# Altium integrated library Analog Devices Data Converters Analog-to-Digital Converters.IntLib: 2400 symbols (part 145 of 338)
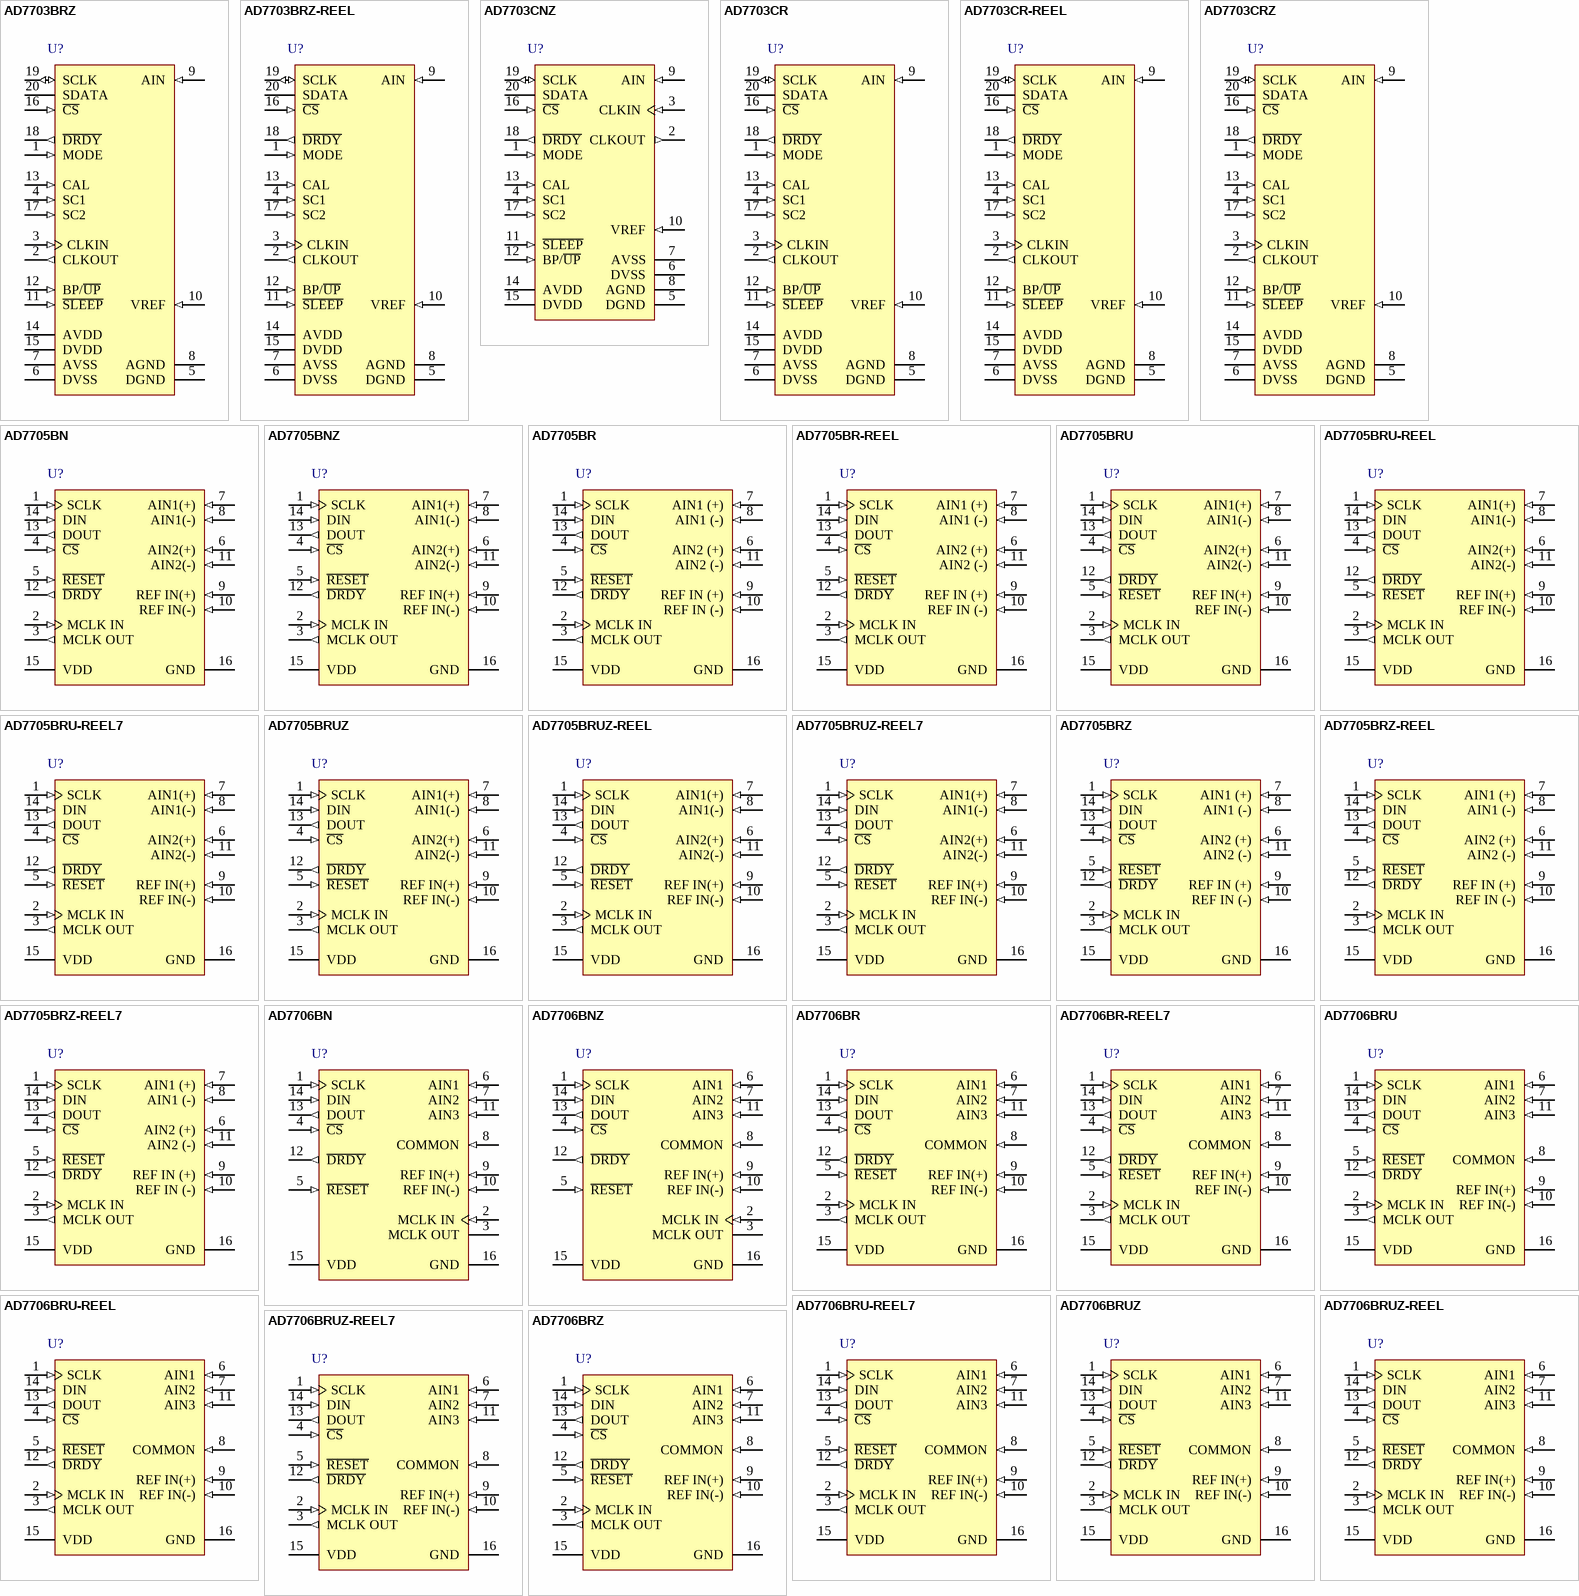
[diagram p238: symbols AD7703BRZ to AD7706BRZ]

## AD7706BRZ
designator U?
3 Channel 16-Bit Sigma-Delta Analog-to-Digital Converter with Serial, SPI Interface, 1 mW, 3 V / 5 V, 500SPS, -40 to +85 degC, RW-16, Pb-Free, Tube; Part Number: AD7706; Manufacturer: Analog Devices; Resolution (Bits): 16; Channels: 3; Throughput Rate (SPS): 500; Interface: Ser, SPI; DatasheetVersion: Rev.C; PackageVersion: 032707-B; PackageReference: RW-16; PackageDescription: 16-Lead Standard Small Outline Package [SOIC_W]; RoHS: Y; Packing: Tube; Mounting Technology: Surface Mount; Code_JEDEC: MS-013-AA; Code_IPC: SOIC127P1030-16; ComponentLink1Description: Manufacturer URL; ComponentLink1URL: http://www.analog.com/en/index.html; ComponentLink2Description: Datasheet; ComponentLink2URL: http://www.analog.com/static/imported-files/data_sheets/AD7705_7706.pdf; ComponentLink3Description: Package Specification; ComponentLink3URL: http://www.analog.com/static/imported-files/packages/PKG_PDF/SOIC_WIDE%20%28RW%29/RW_16.pdf; ComponentLink4Description: Product URL; ComponentLink4URL: http://www.analog.com/en/analog-to-digital-converters/ad-converters/ad7706/products/product.html
footprint RW-16_N (SOIC, 16-Leads, Body 10.3x7.5mm, Pitch 1.27mm, IPC Medium Density)
footprint RW-16_L (SOIC, 16-Leads, Body 10.3x7.5mm, Pitch 1.27mm, IPC High Density)
footprint RW-16_M (SOIC, 16-Leads, Body 10.3x7.5mm, Pitch 1.27mm, IPC Low Density)
pins: 1 SCLK (in) "Serial Clock. An external serial clock is applied to the Schmitt-triggered logic input to access serial data from the AD7705/AD7706. This serial clock can be a continuous clock with all data transmitted in a continuous train (See Datasheet)", 2 MCLK IN (in) "Master Clock Signal. This can be provided in the form of a crystal/resonator or external clock. A crystal/resonator can be tied across the Pin MCLK IN and Pin MCLK OUT. Alternatively, the MCLK IN pin can be driven with a (See Datasheet)", 3 MCLK OUT (out) "When the master clock for these devices is a crystal/resonator, the crystal/resonator is connected between Pin MCLK IN and Pin MCLK OUT. If an external clock is applied to Pin MCLK IN, Pin MCLK OUT provides an inverted clock (See Datasheet)", 4 ~{CS} (in) "Chip Select. Active low logic input used to select the AD7705/AD7706. With this input hardwired low, the AD7705/AD7706 can operate in its 3-wire interface mode with Pin SCLK, Pin DIN, and Pin DOUT used to interface to the (See Datasheet)", 5 ~{RESET} (in) "Logic Input. Active low input that resets the control logic, interface logic, calibration coefficients, digital filter, and analog modulator of the parts to power-on status.", 6 AIN1 (in) "Positive Input of the Differential Analog Input Pair AIN2(+)/AIN2(-) for AD7705. Channel 1 for AD7706.", 7 AIN2 (in) "Positive Input of the Differential Analog Input Pair AIN1(+)/AIN1(-) for AD7705. Channel 2 for AD7706.", 8 COMMON (in) "Negative Input of the Differential Analog Input Pair AIN1(+)/AIN1(-) for AD7705. COMMON input for AD7706 with Channel 1, Channel 2, and Channel 3 referenced to this input.", 9 REF IN(+) (in) "Reference Input. Positive input of the differential reference input to the AD7705/AD7706. The reference input is differential with the provision that REF IN(+) must be greater than REF IN(-). REF IN(+) can lie anywhere (See Datasheet)", 10 REF IN(-) (in) "Reference Input. Negative input of the differential reference input to the AD7705/AD7706. The REF IN(-) can lie anywhere between VDD and GND, provided that REF IN(+) is greater than REF IN(-).", 11 AIN3 (in) "Negative Input of the Differential Analog Input Pair AIN2(+)/AIN2(-) for AD7705. Channel 3 for AD7706.", 12 ~{DRDY} (out) "Logic Output. A logic low on this output indicates that a new output word is available from the AD7705/AD7706 data register. The D\R\D\Y\ pin returns high upon completion of a read operation of a full output word. If no data (See Datasheet)", 13 DOUT (out) "Serial Data Output. Serial data is read from the output shift register on the part. The output shift register can contain information from the setup register, communication register, clock register, or data register, (See Datasheet)", 14 DIN (in) "Serial Data Input. Serial data is written to the input shift register on the part. Data from the input shift register is transferred to the setup register, clock register, or communication register, depending on the register (See Datasheet)", 15 VDD (power) "Supply Voltage. 2.7 V to 5.25 V operation.", 16 GND (power) "Ground Reference Point for the AD7705/AD7706 Internal Circuitry."

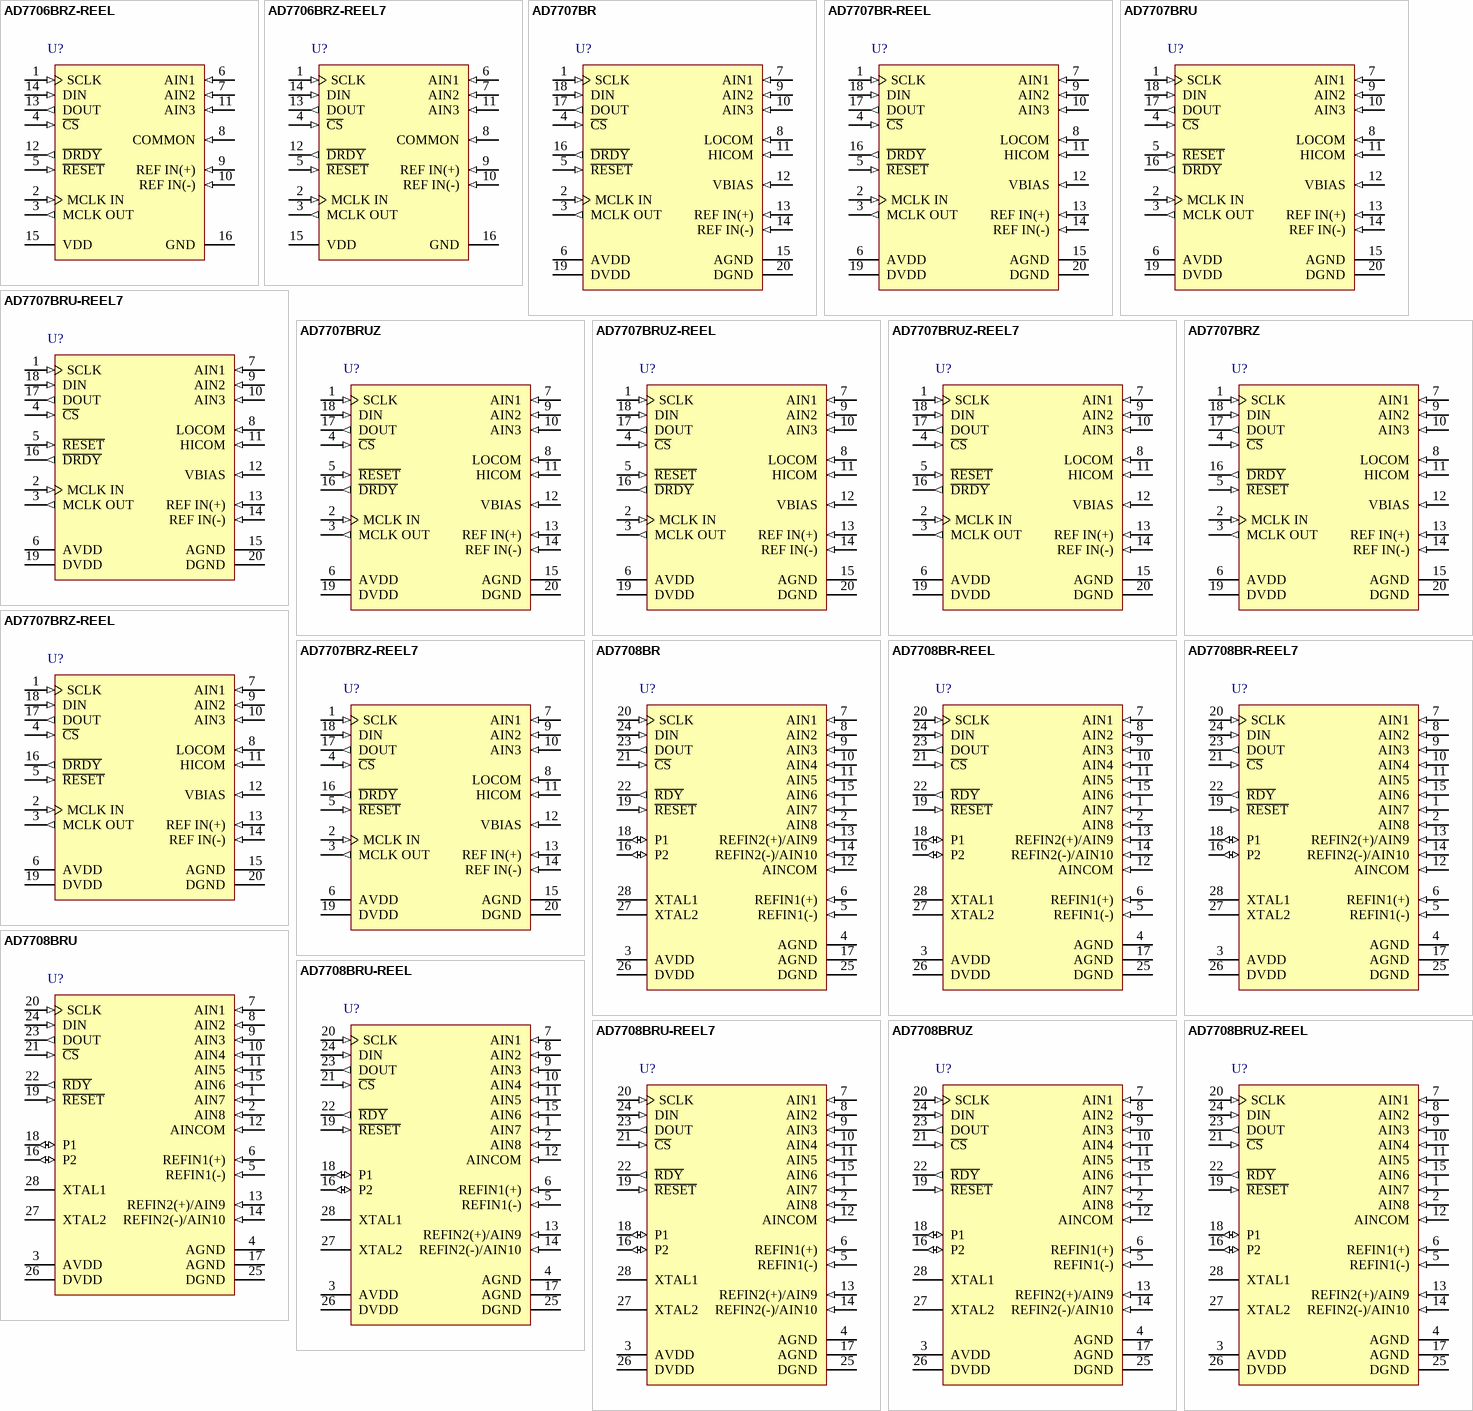
[diagram p48: symbols AD7706BRZ-REEL to AD7708BRUZ-REEL]

## AD7706BRZ-REEL
designator U?
3 Channel 16-Bit Sigma-Delta Analog-to-Digital Converter with Serial, SPI Interface, 1 mW, 3 V / 5 V, 500SPS, -40 to +85 degC, RW-16, Pb-Free, Reel; Part Number: AD7706; Manufacturer: Analog Devices; Resolution (Bits): 16; Channels: 3; Throughput Rate (SPS): 500; Interface: Ser, SPI; DatasheetVersion: Rev.C; PackageVersion: 032707-B; PackageReference: RW-16; PackageDescription: 16-Lead Standard Small Outline Package [SOIC_W]; RoHS: Y; Packing: Reel; Mounting Technology: Surface Mount; Code_JEDEC: MS-013-AA; Code_IPC: SOIC127P1030-16; ComponentLink1Description: Manufacturer URL; ComponentLink1URL: http://www.analog.com/en/index.html; ComponentLink2Description: Datasheet; ComponentLink2URL: http://www.analog.com/static/imported-files/data_sheets/AD7705_7706.pdf; ComponentLink3Description: Package Specification; ComponentLink3URL: http://www.analog.com/static/imported-files/packages/PKG_PDF/SOIC_WIDE%20%28RW%29/RW_16.pdf; ComponentLink4Description: Product URL; ComponentLink4URL: http://www.analog.com/en/analog-to-digital-converters/ad-converters/ad7706/products/product.html
footprint RW-16_N (SOIC, 16-Leads, Body 10.3x7.5mm, Pitch 1.27mm, IPC Medium Density)
footprint RW-16_L (SOIC, 16-Leads, Body 10.3x7.5mm, Pitch 1.27mm, IPC High Density)
footprint RW-16_M (SOIC, 16-Leads, Body 10.3x7.5mm, Pitch 1.27mm, IPC Low Density)
pins: 1 SCLK (in) "Serial Clock. An external serial clock is applied to the Schmitt-triggered logic input to access serial data from the AD7705/AD7706. This serial clock can be a continuous clock with all data transmitted in a continuous train (See Datasheet)", 2 MCLK IN (in) "Master Clock Signal. This can be provided in the form of a crystal/resonator or external clock. A crystal/resonator can be tied across the Pin MCLK IN and Pin MCLK OUT. Alternatively, the MCLK IN pin can be driven with a (See Datasheet)", 3 MCLK OUT (out) "When the master clock for these devices is a crystal/resonator, the crystal/resonator is connected between Pin MCLK IN and Pin MCLK OUT. If an external clock is applied to Pin MCLK IN, Pin MCLK OUT provides an inverted clock (See Datasheet)", 4 ~{CS} (in) "Chip Select. Active low logic input used to select the AD7705/AD7706. With this input hardwired low, the AD7705/AD7706 can operate in its 3-wire interface mode with Pin SCLK, Pin DIN, and Pin DOUT used to interface to the (See Datasheet)", 5 ~{RESET} (in) "Logic Input. Active low input that resets the control logic, interface logic, calibration coefficients, digital filter, and analog modulator of the parts to power-on status.", 6 AIN1 (in) "Positive Input of the Differential Analog Input Pair AIN2(+)/AIN2(-) for AD7705. Channel 1 for AD7706.", 7 AIN2 (in) "Positive Input of the Differential Analog Input Pair AIN1(+)/AIN1(-) for AD7705. Channel 2 for AD7706.", 8 COMMON (in) "Negative Input of the Differential Analog Input Pair AIN1(+)/AIN1(-) for AD7705. COMMON input for AD7706 with Channel 1, Channel 2, and Channel 3 referenced to this input.", 9 REF IN(+) (in) "Reference Input. Positive input of the differential reference input to the AD7705/AD7706. The reference input is differential with the provision that REF IN(+) must be greater than REF IN(-). REF IN(+) can lie anywhere (See Datasheet)", 10 REF IN(-) (in) "Reference Input. Negative input of the differential reference input to the AD7705/AD7706. The REF IN(-) can lie anywhere between VDD and GND, provided that REF IN(+) is greater than REF IN(-).", 11 AIN3 (in) "Negative Input of the Differential Analog Input Pair AIN2(+)/AIN2(-) for AD7705. Channel 3 for AD7706.", 12 ~{DRDY} (out) "Logic Output. A logic low on this output indicates that a new output word is available from the AD7705/AD7706 data register. The D\R\D\Y\ pin returns high upon completion of a read operation of a full output word. If no data (See Datasheet)", 13 DOUT (out) "Serial Data Output. Serial data is read from the output shift register on the part. The output shift register can contain information from the setup register, communication register, clock register, or data register, (See Datasheet)", 14 DIN (in) "Serial Data Input. Serial data is written to the input shift register on the part. Data from the input shift register is transferred to the setup register, clock register, or communication register, depending on the register (See Datasheet)", 15 VDD (power) "Supply Voltage. 2.7 V to 5.25 V operation.", 16 GND (power) "Ground Reference Point for the AD7705/AD7706 Internal Circuitry."

## AD7706BRZ-REEL7
designator U?
3 Channel 16-Bit Sigma-Delta Analog-to-Digital Converter with Serial, SPI Interface, 1 mW, 3 V / 5 V, 500SPS, -40 to +85 degC, RW-16, Pb-Free, Reel; Part Number: AD7706; Manufacturer: Analog Devices; Resolution (Bits): 16; Channels: 3; Throughput Rate (SPS): 500; Interface: Ser, SPI; DatasheetVersion: Rev.C; PackageVersion: 032707-B; PackageReference: RW-16; PackageDescription: 16-Lead Standard Small Outline Package [SOIC_W]; RoHS: Y; Packing: Reel; Mounting Technology: Surface Mount; Code_JEDEC: MS-013-AA; Code_IPC: SOIC127P1030-16; ComponentLink1Description: Manufacturer URL; ComponentLink1URL: http://www.analog.com/en/index.html; ComponentLink2Description: Datasheet; ComponentLink2URL: http://www.analog.com/static/imported-files/data_sheets/AD7705_7706.pdf; ComponentLink3Description: Package Specification; ComponentLink3URL: http://www.analog.com/static/imported-files/packages/PKG_PDF/SOIC_WIDE%20%28RW%29/RW_16.pdf; ComponentLink4Description: Product URL; ComponentLink4URL: http://www.analog.com/en/analog-to-digital-converters/ad-converters/ad7706/products/product.html
footprint RW-16_N (SOIC, 16-Leads, Body 10.3x7.5mm, Pitch 1.27mm, IPC Medium Density)
footprint RW-16_L (SOIC, 16-Leads, Body 10.3x7.5mm, Pitch 1.27mm, IPC High Density)
footprint RW-16_M (SOIC, 16-Leads, Body 10.3x7.5mm, Pitch 1.27mm, IPC Low Density)
pins: 1 SCLK (in) "Serial Clock. An external serial clock is applied to the Schmitt-triggered logic input to access serial data from the AD7705/AD7706. This serial clock can be a continuous clock with all data transmitted in a continuous train (See Datasheet)", 2 MCLK IN (in) "Master Clock Signal. This can be provided in the form of a crystal/resonator or external clock. A crystal/resonator can be tied across the Pin MCLK IN and Pin MCLK OUT. Alternatively, the MCLK IN pin can be driven with a (See Datasheet)", 3 MCLK OUT (out) "When the master clock for these devices is a crystal/resonator, the crystal/resonator is connected between Pin MCLK IN and Pin MCLK OUT. If an external clock is applied to Pin MCLK IN, Pin MCLK OUT provides an inverted clock (See Datasheet)", 4 ~{CS} (in) "Chip Select. Active low logic input used to select the AD7705/AD7706. With this input hardwired low, the AD7705/AD7706 can operate in its 3-wire interface mode with Pin SCLK, Pin DIN, and Pin DOUT used to interface to the (See Datasheet)", 5 ~{RESET} (in) "Logic Input. Active low input that resets the control logic, interface logic, calibration coefficients, digital filter, and analog modulator of the parts to power-on status.", 6 AIN1 (in) "Positive Input of the Differential Analog Input Pair AIN2(+)/AIN2(-) for AD7705. Channel 1 for AD7706.", 7 AIN2 (in) "Positive Input of the Differential Analog Input Pair AIN1(+)/AIN1(-) for AD7705. Channel 2 for AD7706.", 8 COMMON (in) "Negative Input of the Differential Analog Input Pair AIN1(+)/AIN1(-) for AD7705. COMMON input for AD7706 with Channel 1, Channel 2, and Channel 3 referenced to this input.", 9 REF IN(+) (in) "Reference Input. Positive input of the differential reference input to the AD7705/AD7706. The reference input is differential with the provision that REF IN(+) must be greater than REF IN(-). REF IN(+) can lie anywhere (See Datasheet)", 10 REF IN(-) (in) "Reference Input. Negative input of the differential reference input to the AD7705/AD7706. The REF IN(-) can lie anywhere between VDD and GND, provided that REF IN(+) is greater than REF IN(-).", 11 AIN3 (in) "Negative Input of the Differential Analog Input Pair AIN2(+)/AIN2(-) for AD7705. Channel 3 for AD7706.", 12 ~{DRDY} (out) "Logic Output. A logic low on this output indicates that a new output word is available from the AD7705/AD7706 data register. The D\R\D\Y\ pin returns high upon completion of a read operation of a full output word. If no data (See Datasheet)", 13 DOUT (out) "Serial Data Output. Serial data is read from the output shift register on the part. The output shift register can contain information from the setup register, communication register, clock register, or data register, (See Datasheet)", 14 DIN (in) "Serial Data Input. Serial data is written to the input shift register on the part. Data from the input shift register is transferred to the setup register, clock register, or communication register, depending on the register (See Datasheet)", 15 VDD (power) "Supply Voltage. 2.7 V to 5.25 V operation.", 16 GND (power) "Ground Reference Point for the AD7705/AD7706 Internal Circuitry."

## AD7707BR
designator U?
3 Channel 16-Bit Sigma-Delta Analog-to-Digital Converter with Serial, SPI Interface, 1 mW, +/-10 V Input Range, 3 V / 5 V, 500SPS, -40 to +85 degC, RW-20, Tube; Part Number: AD7707; Manufacturer: Analog Devices; Resolution (Bits): 16; Channels: 3; Throughput Rate (SPS): 500; Interface: Ser, SPI; DatasheetVersion: Rev.B; PackageVersion: 060706-A; PackageReference: RW-20; PackageDescription: 20-Lead Standard Small Outline Package [SOIC_W] Wide Body; RoHS: N; Packing: Tube; Mounting Technology: Surface Mount; Code_JEDEC: MS-013-AC; ComponentLink1Description: Manufacturer URL; ComponentLink1URL: http://www.analog.com/en/index.html; ComponentLink2Description: Datasheet; ComponentLink2URL: http://www.analog.com/static/imported-files/data_sheets/AD7707.pdf; ComponentLink3Description: Package Specification; ComponentLink3URL: http://www.analog.com/static/imported-files/packages/233848RW_20.pdf; ComponentLink4Description: Product URL; ComponentLink4URL: http://www.analog.com/en/analog-to-digital-converters/ad-converters/ad7707/products/product.html
footprint RW-20_N (SOIC, 20-Leads, Body 12.8x7.5mm, Pitch 1.27mm, IPC Medium Density)
footprint RW-20_L (SOIC, 20-Leads, Body 12.8x7.5mm, Pitch 1.27mm, IPC High Density)
footprint RW-20_M (SOIC, 20-Leads, Body 12.8x7.5mm, Pitch 1.27mm, IPC Low Density)
pins: 1 SCLK (in) "Serial Clock, Schmitt-Triggered Logic Input. An external serial clock is applied to this input to access serial data from the AD7707. This serial clock can be a continuous clock with all data transmitted in a continuous (See Datasheet)", 2 MCLK IN (in) "Master Clock Signal for the Device. This can be provided in the form of a crystal/resonator or external clock. A crystal/resonator can be tied across the MCLK IN and MCLK OUT pins. Alternatively, the MCLK IN pin can be (See Datasheet)", 3 MCLK OUT (out) "When the master clock for the device is a crystal/resonator, the crystal/resonator is connected between MCLK IN and MCLK OUT. If an external clock is applied to MCLK IN, MCLK OUT provides an inverted clock signal. This clock (See Datasheet)", 4 ~{CS} (in) "Chip Select. This pin is an active low logic input used to select the AD7707. With this input hard-wired low, the AD7707 can operate in its 3-wire interface mode with SCLK, DIN, and DOUT used to interface to the device. C\S\ (See Datasheet)", 5 ~{RESET} (in) "Logic Input. Active low input that resets the control logic, interface logic, calibration coefficients, digital filter, and analog modulator of the part to power-on status.", 6 AVDD (power) "Analog Supply Voltage, 2.7 V to 5.25 V Operation.", 7 AIN1 (in) "Low Level Analog Input Channel 1. This is used as a pseudo differential input with respect to LOCOM.", 8 LOCOM (in) "Common Input for Low Level Input Channels. Analog inputs on AIN1 and AIN2 must be referenced to this input.", 9 AIN2 (in) "Low Level Analog Input Channel 2. This is used as a pseudo differential input with respect to LOCOM.", 10 AIN3 (in) "Single-Ended High Level Analog Input Channel with respect to HICOM.", 11 HICOM (in) "Common Input for High Level Input Channel. Analog input on AIN3 must be referenced to this input.", 12 VBIAS (in) "VBIAS is used to level shift the high level input channel signal. This signal is used to ensure that the AIN(+) and AIN(-) signals seen by the internal modulator are within its common-mode range. VBIAS is normally connected (See Datasheet)", 13 REF IN(+) (in) "Reference Input. Positive input of the differential reference input to the AD7707. The reference input is differential with the provision that REF IN(+) must be greater than REF IN(-). REF IN(+) can lie anywhere between AVDD (See Datasheet)", 14 REF IN(-) (in) "Reference Input. Negative input of the differential reference input to the AD7707. The REF IN(-) can lie anywhere between AVDD and AGND provided that REF IN(+) is greater than REF IN(-).", 15 AGND (power) "Analog Ground. Ground reference point for the AD7707’s internal analog circuitry.", 16 ~{DRDY} (out) "Logic Output. A logic low on this output indicates that a new output word is available from the AD7707 data register. The D\R\D\Y \pin returns high upon completion of a read operation of a full output word. If no data read (See Datasheet)", 17 DOUT (out) "Serial Data Output with Serial Data Being Read from the Output Shift Register on the Part. This output shift register can contain information from the setup register, communications register, clock register, or data (See Datasheet)", 18 DIN (in) "Serial Data Input with Serial Data Being Written to the Input Shift Register on the Part. Data from this input shift register is transferred to the setup register, clock register, or communications register, depending on the (See Datasheet)", 19 DVDD (power) "Digital Supply Voltage, 2.7 V to 5.25 V Operation.", 20 DGND (power) "Ground Reference Point for the AD7707’s Internal Digital Circuitry."

## AD7707BR-REEL
designator U?
3 Channel 16-Bit Sigma-Delta Analog-to-Digital Converter with Serial, SPI Interface, 1 mW, +/-10 V Input Range, 3 V / 5 V, 500SPS, -40 to +85 degC, RW-20, Reel; Part Number: AD7707; Manufacturer: Analog Devices; Resolution (Bits): 16; Channels: 3; Throughput Rate (SPS): 500; Interface: Ser, SPI; DatasheetVersion: Rev.B; PackageVersion: 060706-A; PackageReference: RW-20; PackageDescription: 20-Lead Standard Small Outline Package [SOIC_W] Wide Body; RoHS: N; Packing: Reel; Mounting Technology: Surface Mount; Code_JEDEC: MS-013-AC; ComponentLink1Description: Manufacturer URL; ComponentLink1URL: http://www.analog.com/en/index.html; ComponentLink2Description: Datasheet; ComponentLink2URL: http://www.analog.com/static/imported-files/data_sheets/AD7707.pdf; ComponentLink3Description: Package Specification; ComponentLink3URL: http://www.analog.com/static/imported-files/packages/233848RW_20.pdf; ComponentLink4Description: Product URL; ComponentLink4URL: http://www.analog.com/en/analog-to-digital-converters/ad-converters/ad7707/products/product.html
footprint RW-20_N (SOIC, 20-Leads, Body 12.8x7.5mm, Pitch 1.27mm, IPC Medium Density)
footprint RW-20_L (SOIC, 20-Leads, Body 12.8x7.5mm, Pitch 1.27mm, IPC High Density)
footprint RW-20_M (SOIC, 20-Leads, Body 12.8x7.5mm, Pitch 1.27mm, IPC Low Density)
pins: 1 SCLK (in) "Serial Clock, Schmitt-Triggered Logic Input. An external serial clock is applied to this input to access serial data from the AD7707. This serial clock can be a continuous clock with all data transmitted in a continuous (See Datasheet)", 2 MCLK IN (in) "Master Clock Signal for the Device. This can be provided in the form of a crystal/resonator or external clock. A crystal/resonator can be tied across the MCLK IN and MCLK OUT pins. Alternatively, the MCLK IN pin can be (See Datasheet)", 3 MCLK OUT (out) "When the master clock for the device is a crystal/resonator, the crystal/resonator is connected between MCLK IN and MCLK OUT. If an external clock is applied to MCLK IN, MCLK OUT provides an inverted clock signal. This clock (See Datasheet)", 4 ~{CS} (in) "Chip Select. This pin is an active low logic input used to select the AD7707. With this input hard-wired low, the AD7707 can operate in its 3-wire interface mode with SCLK, DIN, and DOUT used to interface to the device. C\S\ (See Datasheet)", 5 ~{RESET} (in) "Logic Input. Active low input that resets the control logic, interface logic, calibration coefficients, digital filter, and analog modulator of the part to power-on status.", 6 AVDD (power) "Analog Supply Voltage, 2.7 V to 5.25 V Operation.", 7 AIN1 (in) "Low Level Analog Input Channel 1. This is used as a pseudo differential input with respect to LOCOM.", 8 LOCOM (in) "Common Input for Low Level Input Channels. Analog inputs on AIN1 and AIN2 must be referenced to this input.", 9 AIN2 (in) "Low Level Analog Input Channel 2. This is used as a pseudo differential input with respect to LOCOM.", 10 AIN3 (in) "Single-Ended High Level Analog Input Channel with respect to HICOM.", 11 HICOM (in) "Common Input for High Level Input Channel. Analog input on AIN3 must be referenced to this input.", 12 VBIAS (in) "VBIAS is used to level shift the high level input channel signal. This signal is used to ensure that the AIN(+) and AIN(-) signals seen by the internal modulator are within its common-mode range. VBIAS is normally connected (See Datasheet)", 13 REF IN(+) (in) "Reference Input. Positive input of the differential reference input to the AD7707. The reference input is differential with the provision that REF IN(+) must be greater than REF IN(-). REF IN(+) can lie anywhere between AVDD (See Datasheet)", 14 REF IN(-) (in) "Reference Input. Negative input of the differential reference input to the AD7707. The REF IN(-) can lie anywhere between AVDD and AGND provided that REF IN(+) is greater than REF IN(-).", 15 AGND (power) "Analog Ground. Ground reference point for the AD7707’s internal analog circuitry.", 16 ~{DRDY} (out) "Logic Output. A logic low on this output indicates that a new output word is available from the AD7707 data register. The D\R\D\Y \pin returns high upon completion of a read operation of a full output word. If no data read (See Datasheet)", 17 DOUT (out) "Serial Data Output with Serial Data Being Read from the Output Shift Register on the Part. This output shift register can contain information from the setup register, communications register, clock register, or data (See Datasheet)", 18 DIN (in) "Serial Data Input with Serial Data Being Written to the Input Shift Register on the Part. Data from this input shift register is transferred to the setup register, clock register, or communications register, depending on the (See Datasheet)", 19 DVDD (power) "Digital Supply Voltage, 2.7 V to 5.25 V Operation.", 20 DGND (power) "Ground Reference Point for the AD7707’s Internal Digital Circuitry."

## AD7707BRU
designator U?
3 Channel 16-Bit Sigma-Delta Analog-to-Digital Converter with Serial, SPI Interface, 1 mW, +/-10 V Input Range, 3 V / 5 V, 500SPS, -40 to +85 degC, RU-20, Tube; Part Number: AD7707; Manufacturer: Analog Devices; Resolution (Bits): 16; Channels: 3; Throughput Rate (SPS): 500; Interface: Ser, SPI; DatasheetVersion: Rev.B; PackageVersion: 2000; PackageReference: RU-20; PackageDescription: 20-Lead Thin Shrink Small Outline Package [TSSOP]; RoHS: N; Packing: Tube; Mounting Technology: Surface Mount; Code_JEDEC: MO-153AC; ComponentLink1Description: Manufacturer URL; ComponentLink1URL: http://www.analog.com/en/index.html; ComponentLink2Description: Datasheet; ComponentLink2URL: http://www.analog.com/static/imported-files/data_sheets/AD7707.pdf; ComponentLink3Description: Package Specification; ComponentLink3URL: http://www.analog.com/static/imported-files/packages/364515793657813558433715854054607941441RU20.pdf; ComponentLink4Description: Product URL; ComponentLink4URL: http://www.analog.com/en/analog-to-digital-converters/ad-converters/ad7707/products/product.html
footprint RU-20_N (TSOP, 20-Leads, Body 6.5x4.4mm, Pitch 0.65mm, IPC Medium Density)
footprint RU-20_L (TSOP, 20-Leads, Body 6.5x4.4mm, Pitch 0.65mm, IPC High Density)
footprint RU-20_M (TSOP, 20-Leads, Body 6.5x4.4mm, Pitch 0.65mm, IPC Low Density)
pins: 1 SCLK (in) "Serial Clock, Schmitt-Triggered Logic Input. An external serial clock is applied to this input to access serial data from the AD7707. This serial clock can be a continuous clock with all data transmitted in a continuous (See Datasheet)", 2 MCLK IN (in) "Master Clock Signal for the Device. This can be provided in the form of a crystal/resonator or external clock. A crystal/resonator can be tied across the MCLK IN and MCLK OUT pins. Alternatively, the MCLK IN pin can be (See Datasheet)", 3 MCLK OUT (out) "When the master clock for the device is a crystal/resonator, the crystal/resonator is connected between MCLK IN and MCLK OUT. If an external clock is applied to MCLK IN, MCLK OUT provides an inverted clock signal. This clock (See Datasheet)", 4 ~{CS} (in) "Chip Select. This pin is an active low logic input used to select the AD7707. With this input hard-wired low, the AD7707 can operate in its 3-wire interface mode with SCLK, DIN, and DOUT used to interface to the device. C\S\ (See Datasheet)", 5 ~{RESET} (in) "Logic Input. Active low input that resets the control logic, interface logic, calibration coefficients, digital filter, and analog modulator of the part to power-on status.", 6 AVDD (power) "Analog Supply Voltage, 2.7 V to 5.25 V Operation.", 7 AIN1 (in) "Low Level Analog Input Channel 1. This is used as a pseudo differential input with respect to LOCOM.", 8 LOCOM (in) "Common Input for Low Level Input Channels. Analog inputs on AIN1 and AIN2 must be referenced to this input.", 9 AIN2 (in) "Low Level Analog Input Channel 2. This is used as a pseudo differential input with respect to LOCOM.", 10 AIN3 (in) "Single-Ended High Level Analog Input Channel with respect to HICOM.", 11 HICOM (in) "Common Input for High Level Input Channel. Analog input on AIN3 must be referenced to this input.", 12 VBIAS (in) "VBIAS is used to level shift the high level input channel signal. This signal is used to ensure that the AIN(+) and AIN(-) signals seen by the internal modulator are within its common-mode range. VBIAS is normally connected (See Datasheet)", 13 REF IN(+) (in) "Reference Input. Positive input of the differential reference input to the AD7707. The reference input is differential with the provision that REF IN(+) must be greater than REF IN(-). REF IN(+) can lie anywhere between AVDD (See Datasheet)", 14 REF IN(-) (in) "Reference Input. Negative input of the differential reference input to the AD7707. The REF IN(-) can lie anywhere between AVDD and AGND provided that REF IN(+) is greater than REF IN(-).", 15 AGND (power) "Analog Ground. Ground reference point for the AD7707’s internal analog circuitry.", 16 ~{DRDY} (out) "Logic Output. A logic low on this output indicates that a new output word is available from the AD7707 data register. The D\R\D\Y\ pin returns high upon completion of a read operation of a full output word. If no data read (See Datasheet)", 17 DOUT (out) "Serial Data Output with Serial Data Being Read from the Output Shift Register on the Part. This output shift register can contain information from the setup register, communications register, clock register, or data (See Datasheet)", 18 DIN (in) "Serial Data Input with Serial Data Being Written to the Input Shift Register on the Part. Data from this input shift register is transferred to the setup register, clock register, or communications register, depending on the (See Datasheet)", 19 DVDD (power) "Digital Supply Voltage, 2.7 V to 5.25 V Operation.", 20 DGND (power) "Ground Reference Point for the AD7707’s Internal Digital Circuitry."

## AD7707BRU-REEL7
designator U?
3 Channel 16-Bit Sigma-Delta Analog-to-Digital Converter with Serial, SPI Interface, 1 mW, +/-10 V Input Range, 3 V / 5 V, 500SPS, -40 to +85 degC, RU-20, Reel; Part Number: AD7707; Manufacturer: Analog Devices; Resolution (Bits): 16; Channels: 3; Throughput Rate (SPS): 500; Interface: Ser, SPI; DatasheetVersion: Rev.B; PackageVersion: 2000; PackageReference: RU-20; PackageDescription: 20-Lead Thin Shrink Small Outline Package [TSSOP]; RoHS: N; Packing: Reel; Mounting Technology: Surface Mount; Code_JEDEC: MO-153AC; ComponentLink1Description: Manufacturer URL; ComponentLink1URL: http://www.analog.com/en/index.html; ComponentLink2Description: Datasheet; ComponentLink2URL: http://www.analog.com/static/imported-files/data_sheets/AD7707.pdf; ComponentLink3Description: Package Specification; ComponentLink3URL: http://www.analog.com/static/imported-files/packages/364515793657813558433715854054607941441RU20.pdf; ComponentLink4Description: Product URL; ComponentLink4URL: http://www.analog.com/en/analog-to-digital-converters/ad-converters/ad7707/products/product.html
footprint RU-20_N (TSOP, 20-Leads, Body 6.5x4.4mm, Pitch 0.65mm, IPC Medium Density)
footprint RU-20_L (TSOP, 20-Leads, Body 6.5x4.4mm, Pitch 0.65mm, IPC High Density)
footprint RU-20_M (TSOP, 20-Leads, Body 6.5x4.4mm, Pitch 0.65mm, IPC Low Density)
pins: 1 SCLK (in) "Serial Clock, Schmitt-Triggered Logic Input. An external serial clock is applied to this input to access serial data from the AD7707. This serial clock can be a continuous clock with all data transmitted in a continuous (See Datasheet)", 2 MCLK IN (in) "Master Clock Signal for the Device. This can be provided in the form of a crystal/resonator or external clock. A crystal/resonator can be tied across the MCLK IN and MCLK OUT pins. Alternatively, the MCLK IN pin can be (See Datasheet)", 3 MCLK OUT (out) "When the master clock for the device is a crystal/resonator, the crystal/resonator is connected between MCLK IN and MCLK OUT. If an external clock is applied to MCLK IN, MCLK OUT provides an inverted clock signal. This clock (See Datasheet)", 4 ~{CS} (in) "Chip Select. This pin is an active low logic input used to select the AD7707. With this input hard-wired low, the AD7707 can operate in its 3-wire interface mode with SCLK, DIN, and DOUT used to interface to the device. C\S\ (See Datasheet)", 5 ~{RESET} (in) "Logic Input. Active low input that resets the control logic, interface logic, calibration coefficients, digital filter, and analog modulator of the part to power-on status.", 6 AVDD (power) "Analog Supply Voltage, 2.7 V to 5.25 V Operation.", 7 AIN1 (in) "Low Level Analog Input Channel 1. This is used as a pseudo differential input with respect to LOCOM.", 8 LOCOM (in) "Common Input for Low Level Input Channels. Analog inputs on AIN1 and AIN2 must be referenced to this input.", 9 AIN2 (in) "Low Level Analog Input Channel 2. This is used as a pseudo differential input with respect to LOCOM.", 10 AIN3 (in) "Single-Ended High Level Analog Input Channel with respect to HICOM.", 11 HICOM (in) "Common Input for High Level Input Channel. Analog input on AIN3 must be referenced to this input.", 12 VBIAS (in) "VBIAS is used to level shift the high level input channel signal. This signal is used to ensure that the AIN(+) and AIN(-) signals seen by the internal modulator are within its common-mode range. VBIAS is normally connected (See Datasheet)", 13 REF IN(+) (in) "Reference Input. Positive input of the differential reference input to the AD7707. The reference input is differential with the provision that REF IN(+) must be greater than REF IN(-). REF IN(+) can lie anywhere between AVDD (See Datasheet)", 14 REF IN(-) (in) "Reference Input. Negative input of the differential reference input to the AD7707. The REF IN(-) can lie anywhere between AVDD and AGND provided that REF IN(+) is greater than REF IN(-).", 15 AGND (power) "Analog Ground. Ground reference point for the AD7707’s internal analog circuitry.", 16 ~{DRDY} (out) "Logic Output. A logic low on this output indicates that a new output word is available from the AD7707 data register. The D\R\D\Y\ pin returns high upon completion of a read operation of a full output word. If no data read (See Datasheet)", 17 DOUT (out) "Serial Data Output with Serial Data Being Read from the Output Shift Register on the Part. This output shift register can contain information from the setup register, communications register, clock register, or data (See Datasheet)", 18 DIN (in) "Serial Data Input with Serial Data Being Written to the Input Shift Register on the Part. Data from this input shift register is transferred to the setup register, clock register, or communications register, depending on the (See Datasheet)", 19 DVDD (power) "Digital Supply Voltage, 2.7 V to 5.25 V Operation.", 20 DGND (power) "Ground Reference Point for the AD7707’s Internal Digital Circuitry."

## AD7707BRUZ
designator U?
3 Channel 16-Bit Sigma-Delta Analog-to-Digital Converter with Serial, SPI Interface, 1 mW, +/-10 V Input Range, 3 V / 5 V, 500SPS, -40 to +85 degC, RU-20, Pb-Free, Tube; Part Number: AD7707; Manufacturer: Analog Devices; Resolution (Bits): 16; Channels: 3; Throughput Rate (SPS): 500; Interface: Ser, SPI; DatasheetVersion: Rev.B; PackageVersion: 2000; PackageReference: RU-20; PackageDescription: 20-Lead Thin Shrink Small Outline Package [TSSOP]; RoHS: Y; Packing: Tube; Mounting Technology: Surface Mount; Code_JEDEC: MO-153AC; ComponentLink1Description: Manufacturer URL; ComponentLink1URL: http://www.analog.com/en/index.html; ComponentLink2Description: Datasheet; ComponentLink2URL: http://www.analog.com/static/imported-files/data_sheets/AD7707.pdf; ComponentLink3Description: Package Specification; ComponentLink3URL: http://www.analog.com/static/imported-files/packages/364515793657813558433715854054607941441RU20.pdf; ComponentLink4Description: Product URL; ComponentLink4URL: http://www.analog.com/en/analog-to-digital-converters/ad-converters/ad7707/products/product.html
footprint RU-20_N (TSOP, 20-Leads, Body 6.5x4.4mm, Pitch 0.65mm, IPC Medium Density)
footprint RU-20_L (TSOP, 20-Leads, Body 6.5x4.4mm, Pitch 0.65mm, IPC High Density)
footprint RU-20_M (TSOP, 20-Leads, Body 6.5x4.4mm, Pitch 0.65mm, IPC Low Density)
pins: 1 SCLK (in) "Serial Clock, Schmitt-Triggered Logic Input. An external serial clock is applied to this input to access serial data from the AD7707. This serial clock can be a continuous clock with all data transmitted in a continuous (See Datasheet)", 2 MCLK IN (in) "Master Clock Signal for the Device. This can be provided in the form of a crystal/resonator or external clock. A crystal/resonator can be tied across the MCLK IN and MCLK OUT pins. Alternatively, the MCLK IN pin can be (See Datasheet)", 3 MCLK OUT (out) "When the master clock for the device is a crystal/resonator, the crystal/resonator is connected between MCLK IN and MCLK OUT. If an external clock is applied to MCLK IN, MCLK OUT provides an inverted clock signal. This clock (See Datasheet)", 4 ~{CS} (in) "Chip Select. This pin is an active low logic input used to select the AD7707. With this input hard-wired low, the AD7707 can operate in its 3-wire interface mode with SCLK, DIN, and DOUT used to interface to the device. C\S\ (See Datasheet)", 5 ~{RESET} (in) "Logic Input. Active low input that resets the control logic, interface logic, calibration coefficients, digital filter, and analog modulator of the part to power-on status.", 6 AVDD (power) "Analog Supply Voltage, 2.7 V to 5.25 V Operation.", 7 AIN1 (in) "Low Level Analog Input Channel 1. This is used as a pseudo differential input with respect to LOCOM.", 8 LOCOM (in) "Common Input for Low Level Input Channels. Analog inputs on AIN1 and AIN2 must be referenced to this input.", 9 AIN2 (in) "Low Level Analog Input Channel 2. This is used as a pseudo differential input with respect to LOCOM.", 10 AIN3 (in) "Single-Ended High Level Analog Input Channel with respect to HICOM.", 11 HICOM (in) "Common Input for High Level Input Channel. Analog input on AIN3 must be referenced to this input.", 12 VBIAS (in) "VBIAS is used to level shift the high level input channel signal. This signal is used to ensure that the AIN(+) and AIN(-) signals seen by the internal modulator are within its common-mode range. VBIAS is normally connected (See Datasheet)", 13 REF IN(+) (in) "Reference Input. Positive input of the differential reference input to the AD7707. The reference input is differential with the provision that REF IN(+) must be greater than REF IN(-). REF IN(+) can lie anywhere between AVDD (See Datasheet)", 14 REF IN(-) (in) "Reference Input. Negative input of the differential reference input to the AD7707. The REF IN(-) can lie anywhere between AVDD and AGND provided that REF IN(+) is greater than REF IN(-).", 15 AGND (power) "Analog Ground. Ground reference point for the AD7707’s internal analog circuitry.", 16 ~{DRDY} (out) "Logic Output. A logic low on this output indicates that a new output word is available from the AD7707 data register. The D\R\D\Y\ pin returns high upon completion of a read operation of a full output word. If no data read (See Datasheet)", 17 DOUT (out) "Serial Data Output with Serial Data Being Read from the Output Shift Register on the Part. This output shift register can contain information from the setup register, communications register, clock register, or data (See Datasheet)", 18 DIN (in) "Serial Data Input with Serial Data Being Written to the Input Shift Register on the Part. Data from this input shift register is transferred to the setup register, clock register, or communications register, depending on the (See Datasheet)", 19 DVDD (power) "Digital Supply Voltage, 2.7 V to 5.25 V Operation.", 20 DGND (power) "Ground Reference Point for the AD7707’s Internal Digital Circuitry."

## AD7707BRUZ-REEL
designator U?
3 Channel 16-Bit Sigma-Delta Analog-to-Digital Converter with Serial, SPI Interface, 1 mW, +/-10 V Input Range, 3 V / 5 V, 500SPS, -40 to +85 degC, RU-20, Pb-Free, Reel; Part Number: AD7707; Manufacturer: Analog Devices; Resolution (Bits): 16; Channels: 3; Throughput Rate (SPS): 500; Interface: Ser, SPI; DatasheetVersion: Rev.B; PackageVersion: 2000; PackageReference: RU-20; PackageDescription: 20-Lead Thin Shrink Small Outline Package [TSSOP]; RoHS: Y; Packing: Reel; Mounting Technology: Surface Mount; Code_JEDEC: MO-153AC; ComponentLink1Description: Manufacturer URL; ComponentLink1URL: http://www.analog.com/en/index.html; ComponentLink2Description: Datasheet; ComponentLink2URL: http://www.analog.com/static/imported-files/data_sheets/AD7707.pdf; ComponentLink3Description: Package Specification; ComponentLink3URL: http://www.analog.com/static/imported-files/packages/364515793657813558433715854054607941441RU20.pdf; ComponentLink4Description: Product URL; ComponentLink4URL: http://www.analog.com/en/analog-to-digital-converters/ad-converters/ad7707/products/product.html
footprint RU-20_N (TSOP, 20-Leads, Body 6.5x4.4mm, Pitch 0.65mm, IPC Medium Density)
footprint RU-20_L (TSOP, 20-Leads, Body 6.5x4.4mm, Pitch 0.65mm, IPC High Density)
footprint RU-20_M (TSOP, 20-Leads, Body 6.5x4.4mm, Pitch 0.65mm, IPC Low Density)
pins: 1 SCLK (in) "Serial Clock, Schmitt-Triggered Logic Input. An external serial clock is applied to this input to access serial data from the AD7707. This serial clock can be a continuous clock with all data transmitted in a continuous (See Datasheet)", 2 MCLK IN (in) "Master Clock Signal for the Device. This can be provided in the form of a crystal/resonator or external clock. A crystal/resonator can be tied across the MCLK IN and MCLK OUT pins. Alternatively, the MCLK IN pin can be (See Datasheet)", 3 MCLK OUT (out) "When the master clock for the device is a crystal/resonator, the crystal/resonator is connected between MCLK IN and MCLK OUT. If an external clock is applied to MCLK IN, MCLK OUT provides an inverted clock signal. This clock (See Datasheet)", 4 ~{CS} (in) "Chip Select. This pin is an active low logic input used to select the AD7707. With this input hard-wired low, the AD7707 can operate in its 3-wire interface mode with SCLK, DIN, and DOUT used to interface to the device. C\S\ (See Datasheet)", 5 ~{RESET} (in) "Logic Input. Active low input that resets the control logic, interface logic, calibration coefficients, digital filter, and analog modulator of the part to power-on status.", 6 AVDD (power) "Analog Supply Voltage, 2.7 V to 5.25 V Operation.", 7 AIN1 (in) "Low Level Analog Input Channel 1. This is used as a pseudo differential input with respect to LOCOM.", 8 LOCOM (in) "Common Input for Low Level Input Channels. Analog inputs on AIN1 and AIN2 must be referenced to this input.", 9 AIN2 (in) "Low Level Analog Input Channel 2. This is used as a pseudo differential input with respect to LOCOM.", 10 AIN3 (in) "Single-Ended High Level Analog Input Channel with respect to HICOM.", 11 HICOM (in) "Common Input for High Level Input Channel. Analog input on AIN3 must be referenced to this input.", 12 VBIAS (in) "VBIAS is used to level shift the high level input channel signal. This signal is used to ensure that the AIN(+) and AIN(-) signals seen by the internal modulator are within its common-mode range. VBIAS is normally connected (See Datasheet)", 13 REF IN(+) (in) "Reference Input. Positive input of the differential reference input to the AD7707. The reference input is differential with the provision that REF IN(+) must be greater than REF IN(-). REF IN(+) can lie anywhere between AVDD (See Datasheet)", 14 REF IN(-) (in) "Reference Input. Negative input of the differential reference input to the AD7707. The REF IN(-) can lie anywhere between AVDD and AGND provided that REF IN(+) is greater than REF IN(-).", 15 AGND (power) "Analog Ground. Ground reference point for the AD7707’s internal analog circuitry.", 16 ~{DRDY} (out) "Logic Output. A logic low on this output indicates that a new output word is available from the AD7707 data register. The D\R\D\Y\ pin returns high upon completion of a read operation of a full output word. If no data read (See Datasheet)", 17 DOUT (out) "Serial Data Output with Serial Data Being Read from the Output Shift Register on the Part. This output shift register can contain information from the setup register, communications register, clock register, or data (See Datasheet)", 18 DIN (in) "Serial Data Input with Serial Data Being Written to the Input Shift Register on the Part. Data from this input shift register is transferred to the setup register, clock register, or communications register, depending on the (See Datasheet)", 19 DVDD (power) "Digital Supply Voltage, 2.7 V to 5.25 V Operation.", 20 DGND (power) "Ground Reference Point for the AD7707’s Internal Digital Circuitry."

## AD7707BRUZ-REEL7
designator U?
3 Channel 16-Bit Sigma-Delta Analog-to-Digital Converter with Serial, SPI Interface, 1 mW, +/-10 V Input Range, 3 V / 5 V, 500SPS, -40 to +85 degC, RU-20, Pb-Free, Reel; Part Number: AD7707; Manufacturer: Analog Devices; Resolution (Bits): 16; Channels: 3; Throughput Rate (SPS): 500; Interface: Ser, SPI; DatasheetVersion: Rev.B; PackageVersion: 2000; PackageReference: RU-20; PackageDescription: 20-Lead Thin Shrink Small Outline Package [TSSOP]; RoHS: Y; Packing: Reel; Mounting Technology: Surface Mount; Code_JEDEC: MO-153AC; ComponentLink1Description: Manufacturer URL; ComponentLink1URL: http://www.analog.com/en/index.html; ComponentLink2Description: Datasheet; ComponentLink2URL: http://www.analog.com/static/imported-files/data_sheets/AD7707.pdf; ComponentLink3Description: Package Specification; ComponentLink3URL: http://www.analog.com/static/imported-files/packages/364515793657813558433715854054607941441RU20.pdf; ComponentLink4Description: Product URL; ComponentLink4URL: http://www.analog.com/en/analog-to-digital-converters/ad-converters/ad7707/products/product.html
footprint RU-20_N (TSOP, 20-Leads, Body 6.5x4.4mm, Pitch 0.65mm, IPC Medium Density)
footprint RU-20_L (TSOP, 20-Leads, Body 6.5x4.4mm, Pitch 0.65mm, IPC High Density)
footprint RU-20_M (TSOP, 20-Leads, Body 6.5x4.4mm, Pitch 0.65mm, IPC Low Density)
pins: 1 SCLK (in) "Serial Clock, Schmitt-Triggered Logic Input. An external serial clock is applied to this input to access serial data from the AD7707. This serial clock can be a continuous clock with all data transmitted in a continuous (See Datasheet)", 2 MCLK IN (in) "Master Clock Signal for the Device. This can be provided in the form of a crystal/resonator or external clock. A crystal/resonator can be tied across the MCLK IN and MCLK OUT pins. Alternatively, the MCLK IN pin can be (See Datasheet)", 3 MCLK OUT (out) "When the master clock for the device is a crystal/resonator, the crystal/resonator is connected between MCLK IN and MCLK OUT. If an external clock is applied to MCLK IN, MCLK OUT provides an inverted clock signal. This clock (See Datasheet)", 4 ~{CS} (in) "Chip Select. This pin is an active low logic input used to select the AD7707. With this input hard-wired low, the AD7707 can operate in its 3-wire interface mode with SCLK, DIN, and DOUT used to interface to the device. C\S\ (See Datasheet)", 5 ~{RESET} (in) "Logic Input. Active low input that resets the control logic, interface logic, calibration coefficients, digital filter, and analog modulator of the part to power-on status.", 6 AVDD (power) "Analog Supply Voltage, 2.7 V to 5.25 V Operation.", 7 AIN1 (in) "Low Level Analog Input Channel 1. This is used as a pseudo differential input with respect to LOCOM.", 8 LOCOM (in) "Common Input for Low Level Input Channels. Analog inputs on AIN1 and AIN2 must be referenced to this input.", 9 AIN2 (in) "Low Level Analog Input Channel 2. This is used as a pseudo differential input with respect to LOCOM.", 10 AIN3 (in) "Single-Ended High Level Analog Input Channel with respect to HICOM.", 11 HICOM (in) "Common Input for High Level Input Channel. Analog input on AIN3 must be referenced to this input.", 12 VBIAS (in) "VBIAS is used to level shift the high level input channel signal. This signal is used to ensure that the AIN(+) and AIN(-) signals seen by the internal modulator are within its common-mode range. VBIAS is normally connected (See Datasheet)", 13 REF IN(+) (in) "Reference Input. Positive input of the differential reference input to the AD7707. The reference input is differential with the provision that REF IN(+) must be greater than REF IN(-). REF IN(+) can lie anywhere between AVDD (See Datasheet)", 14 REF IN(-) (in) "Reference Input. Negative input of the differential reference input to the AD7707. The REF IN(-) can lie anywhere between AVDD and AGND provided that REF IN(+) is greater than REF IN(-).", 15 AGND (power) "Analog Ground. Ground reference point for the AD7707’s internal analog circuitry.", 16 ~{DRDY} (out) "Logic Output. A logic low on this output indicates that a new output word is available from the AD7707 data register. The D\R\D\Y\ pin returns high upon completion of a read operation of a full output word. If no data read (See Datasheet)", 17 DOUT (out) "Serial Data Output with Serial Data Being Read from the Output Shift Register on the Part. This output shift register can contain information from the setup register, communications register, clock register, or data (See Datasheet)", 18 DIN (in) "Serial Data Input with Serial Data Being Written to the Input Shift Register on the Part. Data from this input shift register is transferred to the setup register, clock register, or communications register, depending on the (See Datasheet)", 19 DVDD (power) "Digital Supply Voltage, 2.7 V to 5.25 V Operation.", 20 DGND (power) "Ground Reference Point for the AD7707’s Internal Digital Circuitry."